# Altium schematic symbol library CC3200.SchLib: 1 symbol
Pins are listed as number, name and electrical type; pins without a type are passive.

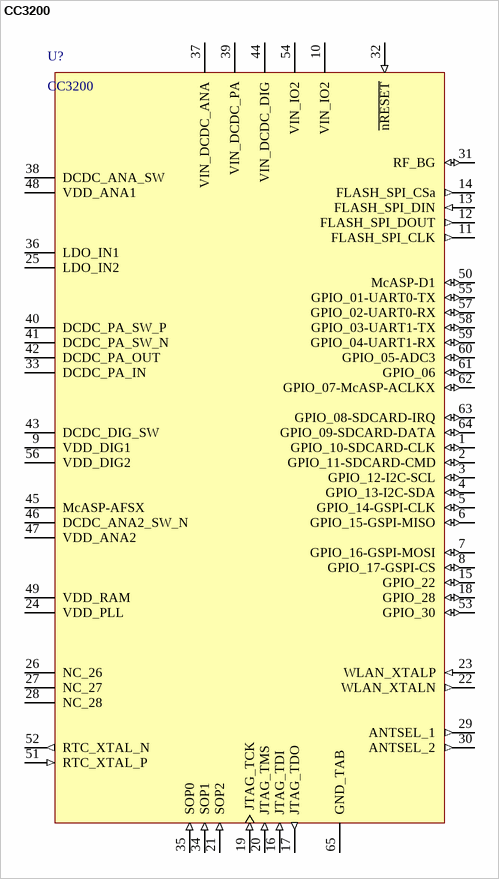
[diagram p0: symbol CC3200]

## CC3200
designator U?
CC3200 Single-Chip Wireless MCU
footprint PQFN50P900X900X100_HS-65N (PQFN, 64-Leads, Body 9.00x9.00mm, Pitch 0.50mm, Thermal Pad 7.30x7.30mm, IPC Medium Density)
pins: 1 GPIO_10-SDCARD-CLK (io), 2 GPIO_11-SDCARD-CMD (io), 3 GPIO_12-I2C-SCL (io), 4 GPIO_13-I2C-SDA (io), 5 GPIO_14-GSPI-CLK (io), 6 GPIO_15-GSPI-MISO (io), 7 GPIO_16-GSPI-MOSI (io), 8 GPIO_17-GSPI-CS (io), 9 VDD_DIG1, 10 VIN_IO2 (power), 11 FLASH_SPI_CLK (out), 12 FLASH_SPI_DOUT (out), 13 FLASH_SPI_DIN (in), 14 FLASH_SPI_CSa (out), 15 GPIO_22 (io), 16 JTAG_TDI (in), 17 JTAG_TDO (out), 18 GPIO_28 (io), 19 JTAG_TCK (in), 20 JTAG_TMS (in), 21 SOP2 (in), 22 WLAN_XTALN (out), 23 WLAN_XTALP (in), 24 VDD_PLL, 25 LDO_IN2, 26 NC_26 (hiz), 27 NC_27 (hiz), 28 NC_28 (hiz), 29 ANTSEL_1 (out), 30 ANTSEL_2 (out), 31 RF_BG (io), 32 ~{nRESET} (in), 33 DCDC_PA_IN, 34 SOP1 (in), 35 SOP0 (in), 36 LDO_IN1, 37 VIN_DCDC_ANA (power), 38 DCDC_ANA_SW, 39 VIN_DCDC_PA (power), 40 DCDC_PA_SW_P, 41 DCDC_PA_SW_N, 42 DCDC_PA_OUT, 43 DCDC_DIG_SW, 44 VIN_DCDC_DIG (power), 45 McASP-AFSX, 46 DCDC_ANA2_SW_N, 47 VDD_ANA2, 48 VDD_ANA1, 49 VDD_RAM, 50 McASP-D1 (io), 51 RTC_XTAL_P (in), 52 RTC_XTAL_N (out), 53 GPIO_30 (io), 54 VIN_IO2 (power), 55 GPIO_01-UART0-TX (io), 56 VDD_DIG2, 57 GPIO_02-UART0-RX (io), 58 GPIO_03-UART1-TX (io), 59 GPIO_04-UART1-RX (io), 60 GPIO_05-ADC3 (io), 61 GPIO_06 (io), 62 GPIO_07-McASP-ACLKX (io), 63 GPIO_08-SDCARD-IRQ (io), 64 GPIO_09-SDCARD-DATA (io), 65 GND_TAB (power)